# Altium integrated library Analog_Devices_Power_Management_Linear_Regulators.IntLib: 441 symbols (part 21 of 23)
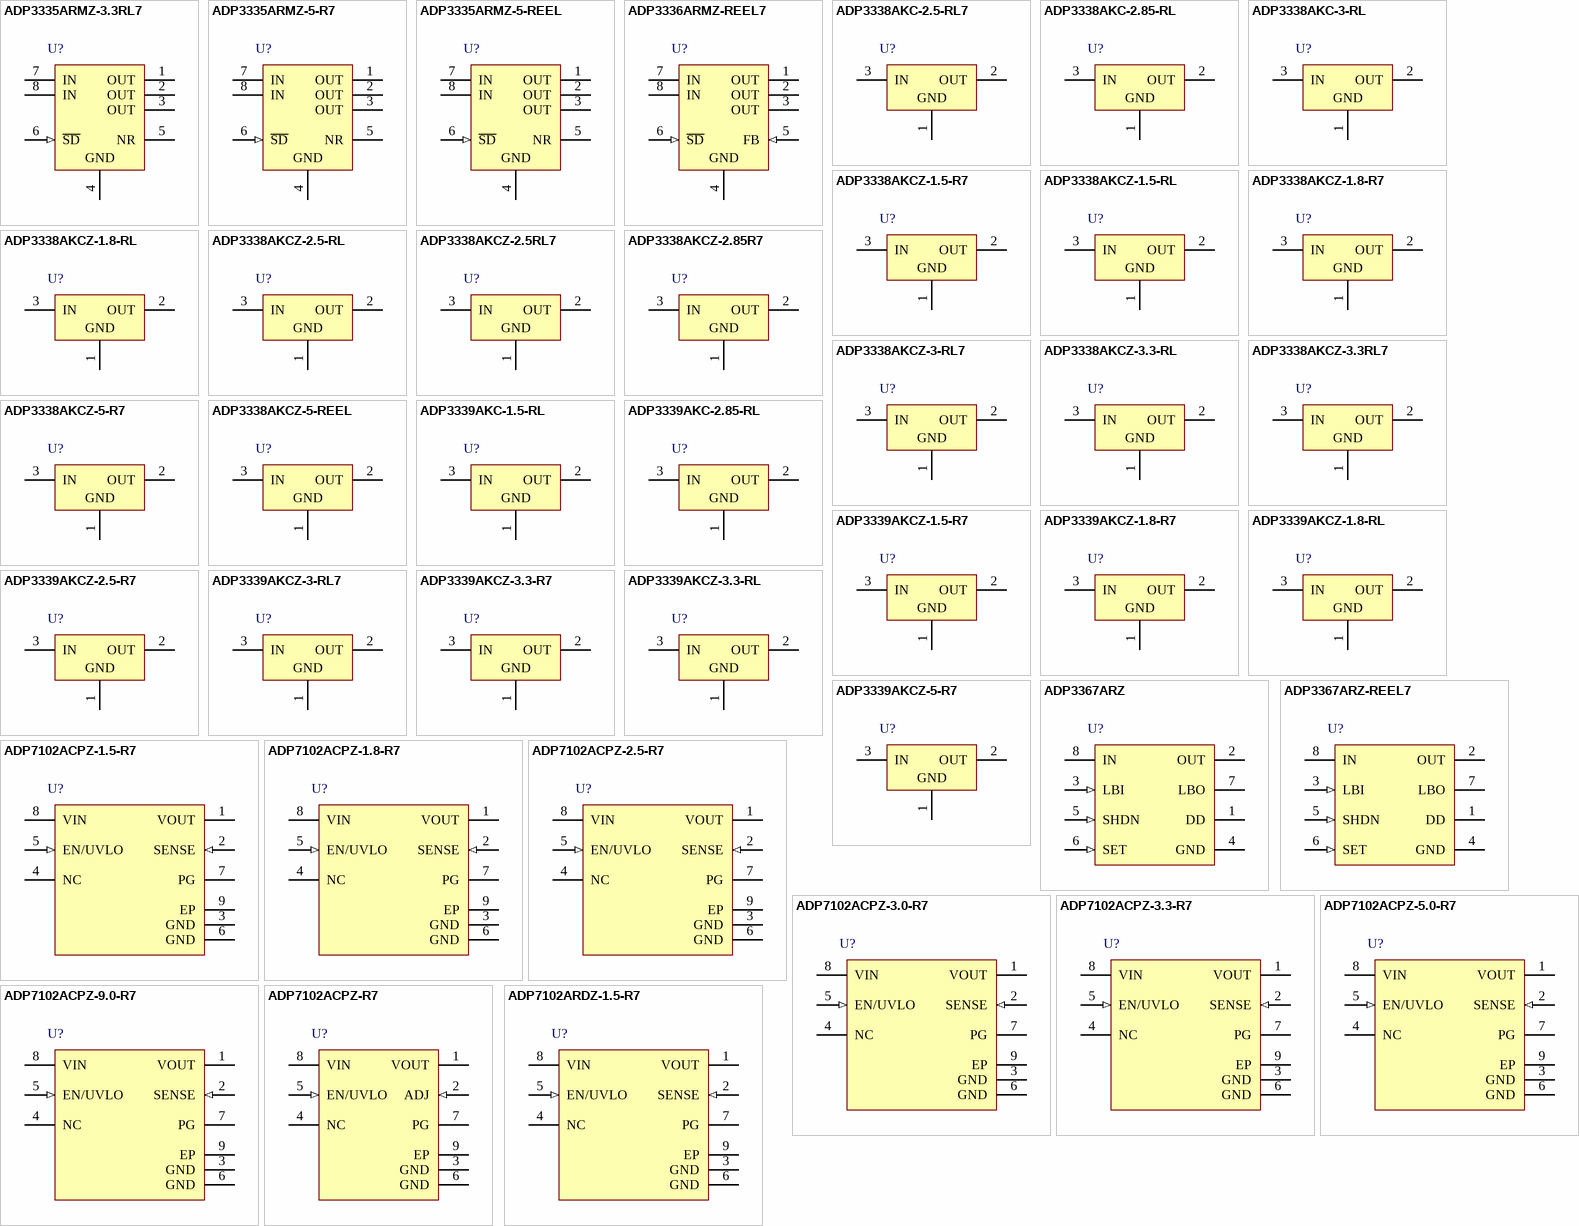
[diagram p31: symbols ADP3335ARMZ-3.3RL7 to ADP7102ARDZ-1.5-R7]

## ADP3339AKC-1.5-RL
designator U?
High Accuracy, Ultralow IQ, 1.5 A, anyCAP Low Dropout Regulator, 2.8 to 6 V Vin, 1.5 V Vout, Industrial, 3-pin SOT223 (KC-3), Reel; Manufacturer: Analog Devices; PartNumber: ADP3339AKC-1.5-RL; Iout max: 1.5A; Preset Vout Values (V): 1.5; Supply Current IGND @ Small Load: 130uA; Vin (max) (V): 6; Vin (min) (V): 2.8; DatasheetVersion: Rev. C; PackageVersion: 11-20-2012-B, 11/2012; PackageReference: KC-3; PackageDescription: 3-Pin Small Outline Transistor Package, Body 3.5 x 6.5 mm, Pitch 2.3 mm; Supplier 1: Mouser; Supplier Part Number 1: N/A; Packing: Reel; Mounting Technology: Surface Mount; Code_JEDEC: TO-261-AA; ComponentLink1Description: Manufacturer URL; ComponentLink1URL: http://www.analog.com/en/index.html; ComponentLink2Description: Datasheet; ComponentLink2URL: http://www.analog.com/static/imported-files/data_sheets/ADP3339.pdf; ComponentLink3Description: Package Specification; ComponentLink3URL: http:/www.analog.com/static/imported-files/packages/PKG_PDF/SOT_223(KC)/KC_3.pdf; ComponentLink4Description: URL Link1; ComponentLink4URL: Product URL:http://www.analog.com/en/ADP3339/productSearch.html
footprint ADI-KC-3_N (SOT223, 4-Leads, Body 6.5x3.5mm, Pitch 2.3mm, IPC Medium Density)
footprint ADI-KC-3_L (SOT223, 4-Leads, Body 6.5x3.5mm, Pitch 2.3mm, IPC High Density)
footprint ADI-KC-3_M (SOT223, 4-Leads, Body 6.5x3.5mm, Pitch 2.3mm, IPC Low Density)
pins: 1 GND (power) "Ground Pin.", 2 OUT (power) "Regulator Output. Bypass to ground with a 1 uF or larger capacitor.", 3 IN (power) "Regulator Input. Bypass to ground with a 1 uF or larger capacitor."

## ADP3339AKC-2.85-RL
designator U?
High Accuracy, Ultralow IQ, 1.5 A, anyCAP Low Dropout Regulator, 2.8 to 6 V Vin, 2.85 V Vout, Industrial, 3-pin SOT223 (KC-3), Reel; Manufacturer: Analog Devices; PartNumber: ADP3339AKC-2.85-RL; Iout max: 1.5A; Preset Vout Values (V): 2.85; Supply Current IGND @ Small Load: 130uA; Vin (max) (V): 6; Vin (min) (V): 2.8; DatasheetVersion: Rev. C; PackageVersion: 11-20-2012-B, 11/2012; PackageReference: KC-3; PackageDescription: 3-Pin Small Outline Transistor Package, Body 3.5 x 6.5 mm, Pitch 2.3 mm; Supplier 1: Mouser; Supplier Part Number 1: N/A; Packing: Reel; Mounting Technology: Surface Mount; Code_JEDEC: TO-261-AA; ComponentLink1Description: Manufacturer URL; ComponentLink1URL: http://www.analog.com/en/index.html; ComponentLink2Description: Datasheet; ComponentLink2URL: http://www.analog.com/static/imported-files/data_sheets/ADP3339.pdf; ComponentLink3Description: Package Specification; ComponentLink3URL: http:/www.analog.com/static/imported-files/packages/PKG_PDF/SOT_223(KC)/KC_3.pdf; ComponentLink4Description: URL Link1; ComponentLink4URL: Product URL:http://www.analog.com/en/ADP3339/productSearch.html
footprint ADI-KC-3_N (SOT223, 4-Leads, Body 6.5x3.5mm, Pitch 2.3mm, IPC Medium Density)
footprint ADI-KC-3_L (SOT223, 4-Leads, Body 6.5x3.5mm, Pitch 2.3mm, IPC High Density)
footprint ADI-KC-3_M (SOT223, 4-Leads, Body 6.5x3.5mm, Pitch 2.3mm, IPC Low Density)
pins: 1 GND (power) "Ground Pin.", 2 OUT (power) "Regulator Output. Bypass to ground with a 1 uF or larger capacitor.", 3 IN (power) "Regulator Input. Bypass to ground with a 1 uF or larger capacitor."

## ADP3339AKCZ-1.5-R7
designator U?
High Accuracy, Ultralow IQ, 1.5 A, anyCAP Low Dropout Regulator, 2.8 to 6 V Vin, 1.5 V Vout, Industrial, 3-pin SOT223 (KC-3), Reel; Manufacturer: Analog Devices; PartNumber: ADP3339AKCZ-1.5-R7; Iout max: 1.5A; Preset Vout Values (V): 1.5; Supply Current IGND @ Small Load: 130uA; Vin (max) (V): 6; Vin (min) (V): 2.8; DatasheetVersion: Rev. C; PackageVersion: 11-20-2012-B, 11/2012; PackageReference: KC-3; PackageDescription: 3-Pin Small Outline Transistor Package, Body 3.5 x 6.5 mm, Pitch 2.3 mm; Supplier 1: Digi-Key; Supplier Part Number 1: ADP3339AKCZ-1.5-R7TR-ND; Supplier 2: Digi-Key; Supplier Part Number 2: ADP3339AKCZ-1.5-R7CT-ND; Supplier 3: Digi-Key; Supplier Part Number 3: ADP3339AKCZ-1.5-R7DKR-ND; Supplier 4: Mouser; Supplier Part Number 4: 584-ADP3339AKCZ1.5R7; Packing: Reel; Mounting Technology: Surface Mount; Code_JEDEC: TO-261-AA; ComponentLink1Description: Manufacturer URL; ComponentLink1URL: http://www.analog.com/en/index.html; ComponentLink2Description: Datasheet; ComponentLink2URL: http://www.analog.com/static/imported-files/data_sheets/ADP3339.pdf; ComponentLink3Description: Package Specification; ComponentLink3URL: http:/www.analog.com/static/imported-files/packages/PKG_PDF/SOT_223(KC)/KC_3.pdf; ComponentLink4Description: URL Link1; ComponentLink4URL: Product URL:http://www.analog.com/en/ADP3339/productSearch.html
footprint ADI-KC-3_N (SOT223, 4-Leads, Body 6.5x3.5mm, Pitch 2.3mm, IPC Medium Density)
footprint ADI-KC-3_L (SOT223, 4-Leads, Body 6.5x3.5mm, Pitch 2.3mm, IPC High Density)
footprint ADI-KC-3_M (SOT223, 4-Leads, Body 6.5x3.5mm, Pitch 2.3mm, IPC Low Density)
pins: 1 GND (power) "Ground Pin.", 2 OUT (power) "Regulator Output. Bypass to ground with a 1 uF or larger capacitor.", 3 IN (power) "Regulator Input. Bypass to ground with a 1 uF or larger capacitor."

## ADP3339AKCZ-1.8-R7
designator U?
High Accuracy, Ultralow IQ, 1.5 A, anyCAP Low Dropout Regulator, 2.8 to 6 V Vin, 1.8 V Vout, Industrial, 3-pin SOT223 (KC-3), Reel; Manufacturer: Analog Devices; PartNumber: ADP3339AKCZ-1.8-R7; Iout max: 1.5A; Preset Vout Values (V): 1.8; Supply Current IGND @ Small Load: 130uA; Vin (max) (V): 6; Vin (min) (V): 2.8; DatasheetVersion: Rev. C; PackageVersion: 11-20-2012-B, 11/2012; PackageReference: KC-3; PackageDescription: 3-Pin Small Outline Transistor Package, Body 3.5 x 6.5 mm, Pitch 2.3 mm; Supplier 1: Digi-Key; Supplier Part Number 1: ADP3339AKCZ-1.8-R7TR-ND; Supplier 2: Digi-Key; Supplier Part Number 2: ADP3339AKCZ-1.8-R7CT-ND; Supplier 3: Digi-Key; Supplier Part Number 3: ADP3339AKCZ-1.8-R7DKR-ND; Supplier 4: Farnell; Supplier Part Number 4: 2376937; Supplier 5: Farnell; Supplier Part Number 5: 1699631; Supplier 6: Newark; Supplier Part Number 6: 61M4001; Supplier 7: Newark; Supplier Part Number 7: 23X6037; Supplier 8: Newark; Supplier Part Number 8: 28X3293; Supplier 9: Mouser; Supplier Part Number 9: 584-ADP3339AKCZ1.8R7; Packing: Reel; Mounting Technology: Surface Mount; Code_JEDEC: TO-261-AA; ComponentLink1Description: Manufacturer URL; ComponentLink1URL: http://www.analog.com/en/index.html; ComponentLink2Description: Datasheet; ComponentLink2URL: http://www.analog.com/static/imported-files/data_sheets/ADP3339.pdf; ComponentLink3Description: Package Specification; ComponentLink3URL: http:/www.analog.com/static/imported-files/packages/PKG_PDF/SOT_223(KC)/KC_3.pdf; ComponentLink4Description: URL Link1; ComponentLink4URL: Product URL:http://www.analog.com/en/ADP3339/productSearch.html
footprint ADI-KC-3_N (SOT223, 4-Leads, Body 6.5x3.5mm, Pitch 2.3mm, IPC Medium Density)
footprint ADI-KC-3_L (SOT223, 4-Leads, Body 6.5x3.5mm, Pitch 2.3mm, IPC High Density)
footprint ADI-KC-3_M (SOT223, 4-Leads, Body 6.5x3.5mm, Pitch 2.3mm, IPC Low Density)
pins: 1 GND (power) "Ground Pin.", 2 OUT (power) "Regulator Output. Bypass to ground with a 1 uF or larger capacitor.", 3 IN (power) "Regulator Input. Bypass to ground with a 1 uF or larger capacitor."

## ADP3339AKCZ-1.8-RL
designator U?
High Accuracy, Ultralow IQ, 1.5 A, anyCAP Low Dropout Regulator, 2.8 to 6 V Vin, 1.8 V Vout, Industrial, 3-pin SOT223 (KC-3), Reel; Manufacturer: Analog Devices; PartNumber: ADP3339AKCZ-1.8-RL; Iout max: 1.5A; Preset Vout Values (V): 1.8; Supply Current IGND @ Small Load: 130uA; Vin (max) (V): 6; Vin (min) (V): 2.8; DatasheetVersion: Rev. C; PackageVersion: 11-20-2012-B, 11/2012; PackageReference: KC-3; PackageDescription: 3-Pin Small Outline Transistor Package, Body 3.5 x 6.5 mm, Pitch 2.3 mm; Supplier 1: Digi-Key; Supplier Part Number 1: ADP3339AKCZ-1.8-RLTR-ND; Supplier 2: Digi-Key; Supplier Part Number 2: ADP3339AKCZ-1.8-RLCT-ND; Supplier 3: Digi-Key; Supplier Part Number 3: ADP3339AKCZ-1.8-RLDKR-ND; Supplier 4: Newark; Supplier Part Number 4: 12M8164; Supplier 5: Mouser; Supplier Part Number 5: 584-ADP3339AKCZ1.8R; Packing: Reel; Mounting Technology: Surface Mount; Code_JEDEC: TO-261-AA; ComponentLink1Description: Manufacturer URL; ComponentLink1URL: http://www.analog.com/en/index.html; ComponentLink2Description: Datasheet; ComponentLink2URL: http://www.analog.com/static/imported-files/data_sheets/ADP3339.pdf; ComponentLink3Description: Package Specification; ComponentLink3URL: http:/www.analog.com/static/imported-files/packages/PKG_PDF/SOT_223(KC)/KC_3.pdf; ComponentLink4Description: URL Link1; ComponentLink4URL: Product URL:http://www.analog.com/en/ADP3339/productSearch.html
footprint ADI-KC-3_N (SOT223, 4-Leads, Body 6.5x3.5mm, Pitch 2.3mm, IPC Medium Density)
footprint ADI-KC-3_L (SOT223, 4-Leads, Body 6.5x3.5mm, Pitch 2.3mm, IPC High Density)
footprint ADI-KC-3_M (SOT223, 4-Leads, Body 6.5x3.5mm, Pitch 2.3mm, IPC Low Density)
pins: 1 GND (power) "Ground Pin.", 2 OUT (power) "Regulator Output. Bypass to ground with a 1 uF or larger capacitor.", 3 IN (power) "Regulator Input. Bypass to ground with a 1 uF or larger capacitor."

## ADP3339AKCZ-2.5-R7
designator U?
High Accuracy, Ultralow IQ, 1.5 A, anyCAP Low Dropout Regulator, 2.8 to 6 V Vin, 2.5 V Vout, Industrial, 3-pin SOT223 (KC-3), Reel; Manufacturer: Analog Devices; PartNumber: ADP3339AKCZ-2.5-R7; Iout max: 1.5A; Preset Vout Values (V): 2.5; Supply Current IGND @ Small Load: 130uA; Vin (max) (V): 6; Vin (min) (V): 2.8; DatasheetVersion: Rev. C; PackageVersion: 11-20-2012-B, 11/2012; PackageReference: KC-3; PackageDescription: 3-Pin Small Outline Transistor Package, Body 3.5 x 6.5 mm, Pitch 2.3 mm; Supplier 1: Digi-Key; Supplier Part Number 1: ADP3339AKCZ-2.5-R7TR-ND; Supplier 2: Digi-Key; Supplier Part Number 2: ADP3339AKCZ-2.5-R7CT-ND; Supplier 3: Digi-Key; Supplier Part Number 3: ADP3339AKCZ-2.5-R7DKR-ND; Supplier 4: Farnell; Supplier Part Number 4: 2376938; Supplier 5: Farnell; Supplier Part Number 5: 1699524; Supplier 6: Newark; Supplier Part Number 6: 12M8166; Supplier 7: Newark; Supplier Part Number 7: 28X3294; Supplier 8: Mouser; Supplier Part Number 8: 584-ADP3339AKCZ2.5R7; Packing: Reel; Mounting Technology: Surface Mount; Code_JEDEC: TO-261-AA; ComponentLink1Description: Manufacturer URL; ComponentLink1URL: http://www.analog.com/en/index.html; ComponentLink2Description: Datasheet; ComponentLink2URL: http://www.analog.com/static/imported-files/data_sheets/ADP3339.pdf; ComponentLink3Description: Package Specification; ComponentLink3URL: http:/www.analog.com/static/imported-files/packages/PKG_PDF/SOT_223(KC)/KC_3.pdf; ComponentLink4Description: URL Link1; ComponentLink4URL: Product URL:http://www.analog.com/en/ADP3339/productSearch.html
footprint ADI-KC-3_N (SOT223, 4-Leads, Body 6.5x3.5mm, Pitch 2.3mm, IPC Medium Density)
footprint ADI-KC-3_L (SOT223, 4-Leads, Body 6.5x3.5mm, Pitch 2.3mm, IPC High Density)
footprint ADI-KC-3_M (SOT223, 4-Leads, Body 6.5x3.5mm, Pitch 2.3mm, IPC Low Density)
pins: 1 GND (power) "Ground Pin.", 2 OUT (power) "Regulator Output. Bypass to ground with a 1 uF or larger capacitor.", 3 IN (power) "Regulator Input. Bypass to ground with a 1 uF or larger capacitor."

## ADP3339AKCZ-3-RL7
designator U?
High Accuracy, Ultralow IQ, 1.5 A, anyCAP Low Dropout Regulator, 2.8 to 6 V Vin, 3 V Vout, Industrial, 3-pin SOT223 (KC-3), Reel; Manufacturer: Analog Devices; PartNumber: ADP3339AKCZ-3-RL7; Iout max: 1.5A; Preset Vout Values (V): 3.0; Supply Current IGND @ Small Load: 130uA; Vin (max) (V): 6; Vin (min) (V): 2.8; DatasheetVersion: Rev. C; PackageVersion: 11-20-2012-B, 11/2012; PackageReference: KC-3; PackageDescription: 3-Pin Small Outline Transistor Package, Body 3.5 x 6.5 mm, Pitch 2.3 mm; Supplier 1: Digi-Key; Supplier Part Number 1: ADP3339AKCZ-3-RL7TR-ND; Supplier 2: Digi-Key; Supplier Part Number 2: ADP3339AKCZ-3-RL7CT-ND; Supplier 3: Digi-Key; Supplier Part Number 3: ADP3339AKCZ-3-RL7DKR-ND; Supplier 4: Newark; Supplier Part Number 4: 12M8169; Supplier 5: Mouser; Supplier Part Number 5: 584-ADP3339AKCZ-3-R7; Packing: Reel; Mounting Technology: Surface Mount; Code_JEDEC: TO-261-AA; ComponentLink1Description: Manufacturer URL; ComponentLink1URL: http://www.analog.com/en/index.html; ComponentLink2Description: Datasheet; ComponentLink2URL: http://www.analog.com/static/imported-files/data_sheets/ADP3339.pdf; ComponentLink3Description: Package Specification; ComponentLink3URL: http:/www.analog.com/static/imported-files/packages/PKG_PDF/SOT_223(KC)/KC_3.pdf; ComponentLink4Description: URL Link1; ComponentLink4URL: Product URL:http://www.analog.com/en/ADP3339/productSearch.html
footprint ADI-KC-3_N (SOT223, 4-Leads, Body 6.5x3.5mm, Pitch 2.3mm, IPC Medium Density)
footprint ADI-KC-3_L (SOT223, 4-Leads, Body 6.5x3.5mm, Pitch 2.3mm, IPC High Density)
footprint ADI-KC-3_M (SOT223, 4-Leads, Body 6.5x3.5mm, Pitch 2.3mm, IPC Low Density)
pins: 1 GND (power) "Ground Pin.", 2 OUT (power) "Regulator Output. Bypass to ground with a 1 uF or larger capacitor.", 3 IN (power) "Regulator Input. Bypass to ground with a 1 uF or larger capacitor."

## ADP3339AKCZ-3.3-R7
designator U?
High Accuracy, Ultralow IQ, 1.5 A, anyCAP Low Dropout Regulator, 2.8 to 6 V Vin, 3.3 V Vout, Industrial, 3-pin SOT223 (KC-3), Reel; Manufacturer: Analog Devices; PartNumber: ADP3339AKCZ-3.3-R7; Iout max: 1.5A; Preset Vout Values (V): 3.3; Supply Current IGND @ Small Load: 130uA; Vin (max) (V): 6; Vin (min) (V): 2.8; DatasheetVersion: Rev. C; PackageVersion: 11-20-2012-B, 11/2012; PackageReference: KC-3; PackageDescription: 3-Pin Small Outline Transistor Package, Body 3.5 x 6.5 mm, Pitch 2.3 mm; Supplier 1: Digi-Key; Supplier Part Number 1: ADP3339AKCZ-3.3-R7TR-ND; Supplier 2: Digi-Key; Supplier Part Number 2: ADP3339AKCZ-3.3-R7CT-ND; Supplier 3: Digi-Key; Supplier Part Number 3: ADP3339AKCZ-3.3-R7DKR-ND; Supplier 4: Farnell; Supplier Part Number 4: 2112615; Supplier 5: Newark; Supplier Part Number 5: 12M8168; Supplier 6: Newark; Supplier Part Number 6: 28X3295; Supplier 7: Mouser; Supplier Part Number 7: 584-ADP3339AKCZ3.3R7; Packing: Reel; Mounting Technology: Surface Mount; Code_JEDEC: TO-261-AA; ComponentLink1Description: Manufacturer URL; ComponentLink1URL: http://www.analog.com/en/index.html; ComponentLink2Description: Datasheet; ComponentLink2URL: http://www.analog.com/static/imported-files/data_sheets/ADP3339.pdf; ComponentLink3Description: Package Specification; ComponentLink3URL: http:/www.analog.com/static/imported-files/packages/PKG_PDF/SOT_223(KC)/KC_3.pdf; ComponentLink4Description: URL Link1; ComponentLink4URL: Product URL:http://www.analog.com/en/ADP3339/productSearch.html
footprint ADI-KC-3_N (SOT223, 4-Leads, Body 6.5x3.5mm, Pitch 2.3mm, IPC Medium Density)
footprint ADI-KC-3_L (SOT223, 4-Leads, Body 6.5x3.5mm, Pitch 2.3mm, IPC High Density)
footprint ADI-KC-3_M (SOT223, 4-Leads, Body 6.5x3.5mm, Pitch 2.3mm, IPC Low Density)
pins: 1 GND (power) "Ground Pin.", 2 OUT (power) "Regulator Output. Bypass to ground with a 1 uF or larger capacitor.", 3 IN (power) "Regulator Input. Bypass to ground with a 1 uF or larger capacitor."

## ADP3339AKCZ-3.3-RL
designator U?
High Accuracy, Ultralow IQ, 1.5 A, anyCAP Low Dropout Regulator, 2.8 to 6 V Vin, 3.3 V Vout, Industrial, 3-pin SOT223 (KC-3), Reel; Manufacturer: Analog Devices; PartNumber: ADP3339AKCZ-3.3-RL; Iout max: 1.5A; Preset Vout Values (V): 3.3; Supply Current IGND @ Small Load: 130uA; Vin (max) (V): 6; Vin (min) (V): 2.8; DatasheetVersion: Rev. C; PackageVersion: 11-20-2012-B, 11/2012; PackageReference: KC-3; PackageDescription: 3-Pin Small Outline Transistor Package, Body 3.5 x 6.5 mm, Pitch 2.3 mm; Supplier 1: Digi-Key; Supplier Part Number 1: ADP3339AKCZ-3.3-RLTR-ND; Supplier 2: Digi-Key; Supplier Part Number 2: ADP3339AKCZ-3.3-RLCT-ND; Supplier 3: Digi-Key; Supplier Part Number 3: ADP3339AKCZ-3.3-RLDKR-ND; Supplier 4: Newark; Supplier Part Number 4: 12M8167; Supplier 5: Mouser; Supplier Part Number 5: 584-ADP3339AKCZ3.3R; Packing: Reel; Mounting Technology: Surface Mount; Code_JEDEC: TO-261-AA; ComponentLink1Description: Manufacturer URL; ComponentLink1URL: http://www.analog.com/en/index.html; ComponentLink2Description: Datasheet; ComponentLink2URL: http://www.analog.com/static/imported-files/data_sheets/ADP3339.pdf; ComponentLink3Description: Package Specification; ComponentLink3URL: http:/www.analog.com/static/imported-files/packages/PKG_PDF/SOT_223(KC)/KC_3.pdf; ComponentLink4Description: URL Link1; ComponentLink4URL: Product URL:http://www.analog.com/en/ADP3339/productSearch.html
footprint ADI-KC-3_N (SOT223, 4-Leads, Body 6.5x3.5mm, Pitch 2.3mm, IPC Medium Density)
footprint ADI-KC-3_L (SOT223, 4-Leads, Body 6.5x3.5mm, Pitch 2.3mm, IPC High Density)
footprint ADI-KC-3_M (SOT223, 4-Leads, Body 6.5x3.5mm, Pitch 2.3mm, IPC Low Density)
pins: 1 GND (power) "Ground Pin.", 2 OUT (power) "Regulator Output. Bypass to ground with a 1 uF or larger capacitor.", 3 IN (power) "Regulator Input. Bypass to ground with a 1 uF or larger capacitor."

## ADP3339AKCZ-5-R7
designator U?
High Accuracy, Ultralow IQ, 1.5 A, anyCAP Low Dropout Regulator, 2.8 to 6 V Vin, 5 V Vout, Industrial, 3-pin SOT223 (KC-3), Reel; Manufacturer: Analog Devices; PartNumber: ADP3339AKCZ-5-R7; Iout max: 1.5A; Preset Vout Values (V): 5.0; Supply Current IGND @ Small Load: 130uA; Vin (max) (V): 6; Vin (min) (V): 2.8; DatasheetVersion: Rev. C; PackageVersion: 11-20-2012-B, 11/2012; PackageReference: KC-3; PackageDescription: 3-Pin Small Outline Transistor Package, Body 3.5 x 6.5 mm, Pitch 2.3 mm; Supplier 1: Digi-Key; Supplier Part Number 1: ADP3339AKCZ-5-R7TR-ND; Supplier 2: Digi-Key; Supplier Part Number 2: ADP3339AKCZ-5-R7CT-ND; Supplier 3: Digi-Key; Supplier Part Number 3: ADP3339AKCZ-5-R7DKR-ND; Supplier 4: Farnell; Supplier Part Number 4: 2376939; Supplier 5: Farnell; Supplier Part Number 5: 1699526; Supplier 6: Newark; Supplier Part Number 6: 12M8170; Supplier 7: Newark; Supplier Part Number 7: 28X3296; Supplier 8: Mouser; Supplier Part Number 8: 584-ADP3339AKCZ-5-R7; Packing: Reel; Mounting Technology: Surface Mount; Code_JEDEC: TO-261-AA; ComponentLink1Description: Manufacturer URL; ComponentLink1URL: http://www.analog.com/en/index.html; ComponentLink2Description: Datasheet; ComponentLink2URL: http://www.analog.com/static/imported-files/data_sheets/ADP3339.pdf; ComponentLink3Description: Package Specification; ComponentLink3URL: http:/www.analog.com/static/imported-files/packages/PKG_PDF/SOT_223(KC)/KC_3.pdf; ComponentLink4Description: URL Link1; ComponentLink4URL: Product URL:http://www.analog.com/en/ADP3339/productSearch.html
footprint ADI-KC-3_N (SOT223, 4-Leads, Body 6.5x3.5mm, Pitch 2.3mm, IPC Medium Density)
footprint ADI-KC-3_L (SOT223, 4-Leads, Body 6.5x3.5mm, Pitch 2.3mm, IPC High Density)
footprint ADI-KC-3_M (SOT223, 4-Leads, Body 6.5x3.5mm, Pitch 2.3mm, IPC Low Density)
pins: 1 GND (power) "Ground Pin.", 2 OUT (power) "Regulator Output. Bypass to ground with a 1 uF or larger capacitor.", 3 IN (power) "Regulator Input. Bypass to ground with a 1 uF or larger capacitor."

## ADP3367ARZ
designator U?
Low-Dropout Linear Voltage Regulator, 2.5 to 16.5 V Vin, 5 V Vout, Industrial, 8-pin SOIC (R-8), Tube; Manufacturer: Analog Devices; PartNumber: ADP3367ARZ; Iout max: 300mA; Preset Vout Values (V): 5; Supply Current IGND @ Small Load: 17uA; Vin (max) (V): 16.5; Vin (min) (V): 2.5; Vout Adjustable Range: 1.3V to 16V; DatasheetVersion: Rev. 0; PackageVersion: 060506-A, 06/2006; PackageReference: R-8; PackageDescription: 8-Pin Standard Small Outline Package, Body 4.9 x 3.9 mm, Pitch 1.27 mm; Supplier 1: Digi-Key; Supplier Part Number 1: ADP3367ARZ-ND; Supplier 2: Farnell; Supplier Part Number 2: 2305725; Supplier 3: Newark; Supplier Part Number 3: 84W7358; Supplier 4: Newark; Supplier Part Number 4: 59K2629; Supplier 5: Mouser; Supplier Part Number 5: 584-ADP3367ARZ; Packing: Tube; Mounting Technology: Surface Mount; Code_JEDEC: MS-012-AA; ComponentLink1Description: Manufacturer URL; ComponentLink1URL: http://www.analog.com/en/index.html; ComponentLink2Description: Datasheet; ComponentLink2URL: http://www.analog.com/static/imported-files/data_sheets/ADP3367.pdf; ComponentLink3Description: Package Specification; ComponentLink3URL: http://www.analog.com/static/imported-files/packages/PKG_PDF/SOIC_Narrow%20(R)/R_8.pdf; ComponentLink4Description: URL Link1; ComponentLink4URL: Product URL:http://www.analog.com/en/ADP3367/productSearch.html
footprint ADI-R-8_N (SOIC, 8-Leads, Body 4.9x3.9mm, Pitch 1.27mm, IPC Medium Density)
footprint ADI-R-8_L (SOIC, 8-Leads, Body 4.9x3.9mm, Pitch 1.27mm, IPC High Density)
footprint ADI-R-8_M (SOIC, 8-Leads, Body 4.9x3.9mm, Pitch 1.27mm, IPC Low Density)
pins: 1 DD (oe) "Dropout Detector Output. PNP collector output which sources current as dropout is reached.", 2 OUT (power) "Regulated Output Voltage. Connect to filter capacitor.", 3 LBI (in) "Low Battery Detect Input. Compared with 1.255 V.", 4 GND (power) "Ground Pin. Must be connected to 0 V.", 5 SHDN (in) "Digital Input. May be used to disable the device so that the power consumption is minimized.", 6 SET (in) "Voltage Setting Input. Connect to GND for +5 V output or connect to resistive divider for adjustable output.", 7 LBO (oc) "Low Battery Detect Output. Open Drain Output that goes low when LBI is below the threshold.", 8 IN (power) "Voltage Regulator Input."

## ADP3367ARZ-REEL7
designator U?
Low-Dropout Linear Voltage Regulator, 2.5 to 16.5 V Vin, 5 V Vout, Industrial, 8-pin SOIC (R-8), Reel; Manufacturer: Analog Devices; PartNumber: ADP3367ARZ-REEL7; Iout max: 300mA; Preset Vout Values (V): 5; Supply Current IGND @ Small Load: 17uA; Vin (max) (V): 16.5; Vin (min) (V): 2.5; Vout Adjustable Range: 1.3V to 16V; DatasheetVersion: Rev. 0; PackageVersion: 060506-A, 06/2006; PackageReference: R-8; PackageDescription: 8-Pin Standard Small Outline Package, Body 4.9 x 3.9 mm, Pitch 1.27 mm; Supplier 1: Digi-Key; Supplier Part Number 1: ADP3367ARZ-REEL7TR-ND; Supplier 2: Digi-Key; Supplier Part Number 2: ADP3367ARZ-REEL7CT-ND; Supplier 3: Digi-Key; Supplier Part Number 3: ADP3367ARZ-REEL7DKR-ND; Supplier 4: Newark; Supplier Part Number 4: 59K2631; Supplier 5: Mouser; Supplier Part Number 5: 584-ADP3367ARZ-R7; Packing: Reel; Mounting Technology: Surface Mount; Code_JEDEC: MS-012-AA; ComponentLink1Description: Manufacturer URL; ComponentLink1URL: http://www.analog.com/en/index.html; ComponentLink2Description: Datasheet; ComponentLink2URL: http://www.analog.com/static/imported-files/data_sheets/ADP3367.pdf; ComponentLink3Description: Package Specification; ComponentLink3URL: http://www.analog.com/static/imported-files/packages/PKG_PDF/SOIC_Narrow%20(R)/R_8.pdf; ComponentLink4Description: URL Link1; ComponentLink4URL: Product URL:http://www.analog.com/en/ADP3367/productSearch.html
footprint ADI-R-8_N (SOIC, 8-Leads, Body 4.9x3.9mm, Pitch 1.27mm, IPC Medium Density)
footprint ADI-R-8_L (SOIC, 8-Leads, Body 4.9x3.9mm, Pitch 1.27mm, IPC High Density)
footprint ADI-R-8_M (SOIC, 8-Leads, Body 4.9x3.9mm, Pitch 1.27mm, IPC Low Density)
pins: 1 DD (oe) "Dropout Detector Output. PNP collector output which sources current as dropout is reached.", 2 OUT (power) "Regulated Output Voltage. Connect to filter capacitor.", 3 LBI (in) "Low Battery Detect Input. Compared with 1.255 V.", 4 GND (power) "Ground Pin. Must be connected to 0 V.", 5 SHDN (in) "Digital Input. May be used to disable the device so that the power consumption is minimized.", 6 SET (in) "Voltage Setting Input. Connect to GND for +5 V output or connect to resistive divider for adjustable output.", 7 LBO (oc) "Low Battery Detect Output. Open Drain Output that goes low when LBI is below the threshold.", 8 IN (power) "Voltage Regulator Input."

## ADP7102ACPZ-1.5-R7
designator U?
300 mA, Low Noise, CMOS LDO, 3.3 to 20 V Vin, 1.5 V Vout, Industrial, 8-pin SON (CP-8-5), Reel; Manufacturer: Analog Devices; PartNumber: ADP7102ACPZ-1.5-R7; Iout max: 300mA; Preset Vout Values (V): 1.5; Supply Current IGND @ Small Load: 400uA; Vin (max) (V): 20; Vin (min) (V): 3.3; DatasheetVersion: Rev. A; PackageVersion: 031208-A, 03/2008; PackageReference: CP-8-5; PackageDescription: 8-Pin Lead Frame Chip Scale Package, Body 3 x 3 mm, Pitch 0.5 mm; Supplier 1: Digi-Key; Supplier Part Number 1: ADP7102ACPZ-1.5-R7TR-ND; Supplier 2: Digi-Key; Supplier Part Number 2: ADP7102ACPZ-1.5-R7CT-ND; Supplier 3: Digi-Key; Supplier Part Number 3: ADP7102ACPZ-1.5-R7DKR-ND; Supplier 4: Mouser; Supplier Part Number 4: 584-ADP7102ACPZ1.5R7; Packing: Reel; Mounting Technology: Surface Mount; ComponentLink1Description: Manufacturer URL; ComponentLink1URL: http://www.analog.com/en/index.html; ComponentLink2Description: Datasheet; ComponentLink2URL: http://www.analog.com/static/imported-files/data_sheets/ADP7102.pdf; ComponentLink3Description: Package Specification; ComponentLink3URL: http://www.analog.com/static/imported-files/packages/PKG_PDF/LFCSP(CP)/CP_8_5.pdf; ComponentLink4Description: URL Link1; ComponentLink4URL: Product URL:http://www.analog.com/en/ADP7102/productSearch.html
footprint ADI-CP-8-5_V (SON, 8-Leads, Body 3x3mm, Pitch 0.5mm, Thermal Pad 1.74x2.38mm)
pins: 1 VOUT (power) "Regulated Output Voltage. Bypass VOUT to GND with a 1 uF or greater capacitor.", 2 SENSE (in) "Sense (SENSE). Measures the actual output voltage at the load and feeds it to the error amplifier. Connect SENSE as close as possible to the load to minimize the effect of IR drop between the regulator output and the load. (See Datasheet)", 3 GND (power) "Ground.", 4 NC "Do Not Connect to this Pin.", 5 EN/UVLO (in), 6 GND (power) "Ground.", 7 PG (oc) "Power Good. This open-drain output requires an external pull-up resistor to VIN or VOUT. If the part is in shutdown, current limit, thermal shutdown, or falls below 90% of the nominal output voltage, PG immediately (See Datasheet)", 8 VIN (power) "Regulator Input Supply. Bypass VIN to GND with a 1 uF or greater capacitor.", 9 EP (power) "Exposed Pad. Exposed paddle on the bottom of the package. The EPAD enhances thermal performance and is electrically connected to GND inside the package. It is highly recommended that the EPAD be connected to the ground plane (See Datasheet)"

## ADP7102ACPZ-1.8-R7
designator U?
300 mA, Low Noise, CMOS LDO, 3.3 to 20 V Vin, 1.8 V Vout, Industrial, 8-pin SON (CP-8-5), Reel; Manufacturer: Analog Devices; PartNumber: ADP7102ACPZ-1.8-R7; Iout max: 300mA; Preset Vout Values (V): 1.8; Supply Current IGND @ Small Load: 400uA; Vin (max) (V): 20; Vin (min) (V): 3.3; DatasheetVersion: Rev. A; PackageVersion: 031208-A, 03/2008; PackageReference: CP-8-5; PackageDescription: 8-Pin Lead Frame Chip Scale Package, Body 3 x 3 mm, Pitch 0.5 mm; Supplier 1: Digi-Key; Supplier Part Number 1: ADP7102ACPZ-1.8-R7TR-ND; Supplier 2: Digi-Key; Supplier Part Number 2: ADP7102ACPZ-1.8-R7CT-ND; Supplier 3: Digi-Key; Supplier Part Number 3: ADP7102ACPZ-1.8-R7DKR-ND; Supplier 4: Newark; Supplier Part Number 4: 43W5493; Supplier 5: Mouser; Supplier Part Number 5: 584-ADP7102ACPZ1.8R7; Packing: Reel; Mounting Technology: Surface Mount; ComponentLink1Description: Manufacturer URL; ComponentLink1URL: http://www.analog.com/en/index.html; ComponentLink2Description: Datasheet; ComponentLink2URL: http://www.analog.com/static/imported-files/data_sheets/ADP7102.pdf; ComponentLink3Description: Package Specification; ComponentLink3URL: http://www.analog.com/static/imported-files/packages/PKG_PDF/LFCSP(CP)/CP_8_5.pdf; ComponentLink4Description: URL Link1; ComponentLink4URL: Product URL:http://www.analog.com/en/ADP7102/productSearch.html
footprint ADI-CP-8-5_V (SON, 8-Leads, Body 3x3mm, Pitch 0.5mm, Thermal Pad 1.74x2.38mm)
pins: 1 VOUT (power) "Regulated Output Voltage. Bypass VOUT to GND with a 1 uF or greater capacitor.", 2 SENSE (in) "Sense (SENSE). Measures the actual output voltage at the load and feeds it to the error amplifier. Connect SENSE as close as possible to the load to minimize the effect of IR drop between the regulator output and the load. (See Datasheet)", 3 GND (power) "Ground.", 4 NC "Do Not Connect to this Pin.", 5 EN/UVLO (in), 6 GND (power) "Ground.", 7 PG (oc) "Power Good. This open-drain output requires an external pull-up resistor to VIN or VOUT. If the part is in shutdown, current limit, thermal shutdown, or falls below 90% of the nominal output voltage, PG immediately (See Datasheet)", 8 VIN (power) "Regulator Input Supply. Bypass VIN to GND with a 1 uF or greater capacitor.", 9 EP (power) "Exposed Pad. Exposed paddle on the bottom of the package. The EPAD enhances thermal performance and is electrically connected to GND inside the package. It is highly recommended that the EPAD be connected to the ground plane (See Datasheet)"

## ADP7102ACPZ-2.5-R7
designator U?
300 mA, Low Noise, CMOS LDO, 3.3 to 20 V Vin, 2.5 V Vout, Industrial, 8-pin SON (CP-8-5), Reel; Manufacturer: Analog Devices; PartNumber: ADP7102ACPZ-2.5-R7; Iout max: 300mA; Preset Vout Values (V): 2.5; Supply Current IGND @ Small Load: 400uA; Vin (max) (V): 20; Vin (min) (V): 3.3; DatasheetVersion: Rev. A; PackageVersion: 031208-A, 03/2008; PackageReference: CP-8-5; PackageDescription: 8-Pin Lead Frame Chip Scale Package, Body 3 x 3 mm, Pitch 0.5 mm; Supplier 1: Digi-Key; Supplier Part Number 1: ADP7102ACPZ-2.5-R7TR-ND; Supplier 2: Digi-Key; Supplier Part Number 2: ADP7102ACPZ-2.5-R7CT-ND; Supplier 3: Digi-Key; Supplier Part Number 3: ADP7102ACPZ-2.5-R7DKR-ND; Supplier 4: Newark; Supplier Part Number 4: 43W5494; Supplier 5: Mouser; Supplier Part Number 5: 584-ADP7102ACPZ2.5R7; Packing: Reel; Mounting Technology: Surface Mount; ComponentLink1Description: Manufacturer URL; ComponentLink1URL: http://www.analog.com/en/index.html; ComponentLink2Description: Datasheet; ComponentLink2URL: http://www.analog.com/static/imported-files/data_sheets/ADP7102.pdf; ComponentLink3Description: Package Specification; ComponentLink3URL: http://www.analog.com/static/imported-files/packages/PKG_PDF/LFCSP(CP)/CP_8_5.pdf; ComponentLink4Description: URL Link1; ComponentLink4URL: Product URL:http://www.analog.com/en/ADP7102/productSearch.html
footprint ADI-CP-8-5_V (SON, 8-Leads, Body 3x3mm, Pitch 0.5mm, Thermal Pad 1.74x2.38mm)
pins: 1 VOUT (power) "Regulated Output Voltage. Bypass VOUT to GND with a 1 uF or greater capacitor.", 2 SENSE (in) "Sense (SENSE). Measures the actual output voltage at the load and feeds it to the error amplifier. Connect SENSE as close as possible to the load to minimize the effect of IR drop between the regulator output and the load. (See Datasheet)", 3 GND (power) "Ground.", 4 NC "Do Not Connect to this Pin.", 5 EN/UVLO (in), 6 GND (power) "Ground.", 7 PG (oc) "Power Good. This open-drain output requires an external pull-up resistor to VIN or VOUT. If the part is in shutdown, current limit, thermal shutdown, or falls below 90% of the nominal output voltage, PG immediately (See Datasheet)", 8 VIN (power) "Regulator Input Supply. Bypass VIN to GND with a 1 uF or greater capacitor.", 9 EP (power) "Exposed Pad. Exposed paddle on the bottom of the package. The EPAD enhances thermal performance and is electrically connected to GND inside the package. It is highly recommended that the EPAD be connected to the ground plane (See Datasheet)"

## ADP7102ACPZ-3.0-R7
designator U?
300 mA, Low Noise, CMOS LDO, 3.3 to 20 V Vin, 3 V Vout, Industrial, 8-pin SON (CP-8-5), Reel; Manufacturer: Analog Devices; PartNumber: ADP7102ACPZ-3.0-R7; Iout max: 300mA; Preset Vout Values (V): 3.0; Supply Current IGND @ Small Load: 400uA; Vin (max) (V): 20; Vin (min) (V): 3.3; DatasheetVersion: Rev. A; PackageVersion: 031208-A, 03/2008; PackageReference: CP-8-5; PackageDescription: 8-Pin Lead Frame Chip Scale Package, Body 3 x 3 mm, Pitch 0.5 mm; Supplier 1: Digi-Key; Supplier Part Number 1: ADP7102ACPZ-3.0-R7TR-ND; Supplier 2: Digi-Key; Supplier Part Number 2: ADP7102ACPZ-3.0-R7CT-ND; Supplier 3: Digi-Key; Supplier Part Number 3: ADP7102ACPZ-3.0-R7DKR-ND; Supplier 4: Mouser; Supplier Part Number 4: 584-ADP7102ACPZ3.0R7; Packing: Reel; Mounting Technology: Surface Mount; ComponentLink1Description: Manufacturer URL; ComponentLink1URL: http://www.analog.com/en/index.html; ComponentLink2Description: Datasheet; ComponentLink2URL: http://www.analog.com/static/imported-files/data_sheets/ADP7102.pdf; ComponentLink3Description: Package Specification; ComponentLink3URL: http://www.analog.com/static/imported-files/packages/PKG_PDF/LFCSP(CP)/CP_8_5.pdf; ComponentLink4Description: URL Link1; ComponentLink4URL: Product URL:http://www.analog.com/en/ADP7102/productSearch.html
footprint ADI-CP-8-5_V (SON, 8-Leads, Body 3x3mm, Pitch 0.5mm, Thermal Pad 1.74x2.38mm)
pins: 1 VOUT (power) "Regulated Output Voltage. Bypass VOUT to GND with a 1 uF or greater capacitor.", 2 SENSE (in) "Sense (SENSE). Measures the actual output voltage at the load and feeds it to the error amplifier. Connect SENSE as close as possible to the load to minimize the effect of IR drop between the regulator output and the load. (See Datasheet)", 3 GND (power) "Ground.", 4 NC "Do Not Connect to this Pin.", 5 EN/UVLO (in), 6 GND (power) "Ground.", 7 PG (oc) "Power Good. This open-drain output requires an external pull-up resistor to VIN or VOUT. If the part is in shutdown, current limit, thermal shutdown, or falls below 90% of the nominal output voltage, PG immediately (See Datasheet)", 8 VIN (power) "Regulator Input Supply. Bypass VIN to GND with a 1 uF or greater capacitor.", 9 EP (power) "Exposed Pad. Exposed paddle on the bottom of the package. The EPAD enhances thermal performance and is electrically connected to GND inside the package. It is highly recommended that the EPAD be connected to the ground plane (See Datasheet)"

## ADP7102ACPZ-3.3-R7
designator U?
300 mA, Low Noise, CMOS LDO, 3.3 to 20 V Vin, 3.3 V Vout, Industrial, 8-pin SON (CP-8-5), Reel; Manufacturer: Analog Devices; PartNumber: ADP7102ACPZ-3.3-R7; Iout max: 300mA; Preset Vout Values (V): 3.3; Supply Current IGND @ Small Load: 400uA; Vin (max) (V): 20; DatasheetVersion: Rev. A; PackageVersion: 031208-A, 03/2008; PackageReference: CP-8-5; PackageDescription: 8-Pin Lead Frame Chip Scale Package, Body 3 x 3 mm, Pitch 0.5 mm; Supplier 1: Digi-Key; Supplier Part Number 1: ADP7102ACPZ-3.3-R7TR-ND; Supplier 2: Digi-Key; Supplier Part Number 2: ADP7102ACPZ-3.3-R7CT-ND; Supplier 3: Digi-Key; Supplier Part Number 3: ADP7102ACPZ-3.3-R7DKR-ND; Supplier 4: Newark; Supplier Part Number 4: 43W5496; Supplier 5: Mouser; Supplier Part Number 5: 584-ADP7102ACPZ3.3R7; Packing: Reel; Vin (min) (V): 3.3; Mounting Technology: Surface Mount; ComponentLink1Description: Manufacturer URL; ComponentLink1URL: http://www.analog.com/en/index.html; ComponentLink2Description: Datasheet; ComponentLink2URL: http://www.analog.com/static/imported-files/data_sheets/ADP7102.pdf; ComponentLink3Description: Package Specification; ComponentLink3URL: http://www.analog.com/static/imported-files/packages/PKG_PDF/LFCSP(CP)/CP_8_5.pdf; ComponentLink4Description: URL Link1; ComponentLink4URL: Product URL:http://www.analog.com/en/ADP7102/productSearch.html
footprint ADI-CP-8-5_V (SON, 8-Leads, Body 3x3mm, Pitch 0.5mm, Thermal Pad 1.74x2.38mm)
pins: 1 VOUT (power) "Regulated Output Voltage. Bypass VOUT to GND with a 1 uF or greater capacitor.", 2 SENSE (in) "Sense (SENSE). Measures the actual output voltage at the load and feeds it to the error amplifier. Connect SENSE as close as possible to the load to minimize the effect of IR drop between the regulator output and the load. (See Datasheet)", 3 GND (power) "Ground.", 4 NC "Do Not Connect to this Pin.", 5 EN/UVLO (in), 6 GND (power) "Ground.", 7 PG (oc) "Power Good. This open-drain output requires an external pull-up resistor to VIN or VOUT. If the part is in shutdown, current limit, thermal shutdown, or falls below 90% of the nominal output voltage, PG immediately (See Datasheet)", 8 VIN (power) "Regulator Input Supply. Bypass VIN to GND with a 1 uF or greater capacitor.", 9 EP (power) "Exposed Pad. Exposed paddle on the bottom of the package. The EPAD enhances thermal performance and is electrically connected to GND inside the package. It is highly recommended that the EPAD be connected to the ground plane (See Datasheet)"

## ADP7102ACPZ-5.0-R7
designator U?
300 mA, Low Noise, CMOS LDO, 3.3 to 20 V Vin, 5 V Vout, Industrial, 8-pin SON (CP-8-5), Reel; Manufacturer: Analog Devices; PartNumber: ADP7102ACPZ-5.0-R7; Iout max: 300mA; Preset Vout Values (V): 5.0; Supply Current IGND @ Small Load: 400uA; Vin (max) (V): 20; Vin (min) (V): 3.3; DatasheetVersion: Rev. A; PackageVersion: 031208-A, 03/2008; PackageReference: CP-8-5; PackageDescription: 8-Pin Lead Frame Chip Scale Package, Body 3 x 3 mm, Pitch 0.5 mm; Supplier 1: Digi-Key; Supplier Part Number 1: ADP7102ACPZ-5.0-R7TR-ND; Supplier 2: Digi-Key; Supplier Part Number 2: ADP7102ACPZ-5.0-R7CT-ND; Supplier 3: Digi-Key; Supplier Part Number 3: ADP7102ACPZ-5.0-R7DKR-ND; Supplier 4: Newark; Supplier Part Number 4: 43W5497; Supplier 5: Mouser; Supplier Part Number 5: 584-ADP7102ACPZ5.0R7; Packing: Reel; Mounting Technology: Surface Mount; ComponentLink1Description: Manufacturer URL; ComponentLink1URL: http://www.analog.com/en/index.html; ComponentLink2Description: Datasheet; ComponentLink2URL: http://www.analog.com/static/imported-files/data_sheets/ADP7102.pdf; ComponentLink3Description: Package Specification; ComponentLink3URL: http://www.analog.com/static/imported-files/packages/PKG_PDF/LFCSP(CP)/CP_8_5.pdf; ComponentLink4Description: URL Link1; ComponentLink4URL: Product URL:http://www.analog.com/en/ADP7102/productSearch.html
footprint ADI-CP-8-5_V (SON, 8-Leads, Body 3x3mm, Pitch 0.5mm, Thermal Pad 1.74x2.38mm)
pins: 1 VOUT (power) "Regulated Output Voltage. Bypass VOUT to GND with a 1 uF or greater capacitor.", 2 SENSE (in) "Sense (SENSE). Measures the actual output voltage at the load and feeds it to the error amplifier. Connect SENSE as close as possible to the load to minimize the effect of IR drop between the regulator output and the load. (See Datasheet)", 3 GND (power) "Ground.", 4 NC "Do Not Connect to this Pin.", 5 EN/UVLO (in), 6 GND (power) "Ground.", 7 PG (oc) "Power Good. This open-drain output requires an external pull-up resistor to VIN or VOUT. If the part is in shutdown, current limit, thermal shutdown, or falls below 90% of the nominal output voltage, PG immediately (See Datasheet)", 8 VIN (power) "Regulator Input Supply. Bypass VIN to GND with a 1 uF or greater capacitor.", 9 EP (power) "Exposed Pad. Exposed paddle on the bottom of the package. The EPAD enhances thermal performance and is electrically connected to GND inside the package. It is highly recommended that the EPAD be connected to the ground plane (See Datasheet)"

## ADP7102ACPZ-9.0-R7
designator U?
300 mA, Low Noise, CMOS LDO, 3.3 to 20 V Vin, 9 V Vout, Industrial, 8-pin SON (CP-8-5), Reel; Manufacturer: Analog Devices; PartNumber: ADP7102ACPZ-9.0-R7; Iout max: 300mA; Preset Vout Values (V): 9.0; Supply Current IGND @ Small Load: 400uA; Vin (max) (V): 20; Vin (min) (V): 3.3; DatasheetVersion: Rev. A; PackageVersion: 031208-A, 03/2008; PackageReference: CP-8-5; PackageDescription: 8-Pin Lead Frame Chip Scale Package, Body 3 x 3 mm, Pitch 0.5 mm; Supplier 1: Digi-Key; Supplier Part Number 1: ADP7102ACPZ-9.0-R7TR-ND; Supplier 2: Digi-Key; Supplier Part Number 2: ADP7102ACPZ-9.0-R7CT-ND; Supplier 3: Digi-Key; Supplier Part Number 3: ADP7102ACPZ-9.0-R7DKR-ND; Supplier 4: Newark; Supplier Part Number 4: 43W5498; Supplier 5: Mouser; Supplier Part Number 5: 584-ADP7102ACPZ9.0R7; Packing: Reel; Mounting Technology: Surface Mount; ComponentLink1Description: Manufacturer URL; ComponentLink1URL: http://www.analog.com/en/index.html; ComponentLink2Description: Datasheet; ComponentLink2URL: http://www.analog.com/static/imported-files/data_sheets/ADP7102.pdf; ComponentLink3Description: Package Specification; ComponentLink3URL: http://www.analog.com/static/imported-files/packages/PKG_PDF/LFCSP(CP)/CP_8_5.pdf; ComponentLink4Description: URL Link1; ComponentLink4URL: Product URL:http://www.analog.com/en/ADP7102/productSearch.html
footprint ADI-CP-8-5_V (SON, 8-Leads, Body 3x3mm, Pitch 0.5mm, Thermal Pad 1.74x2.38mm)
pins: 1 VOUT (power) "Regulated Output Voltage. Bypass VOUT to GND with a 1 uF or greater capacitor.", 2 SENSE (in) "Sense (SENSE). Measures the actual output voltage at the load and feeds it to the error amplifier. Connect SENSE as close as possible to the load to minimize the effect of IR drop between the regulator output and the load. (See Datasheet)", 3 GND (power) "Ground.", 4 NC "Do Not Connect to this Pin.", 5 EN/UVLO (in), 6 GND (power) "Ground.", 7 PG (oc) "Power Good. This open-drain output requires an external pull-up resistor to VIN or VOUT. If the part is in shutdown, current limit, thermal shutdown, or falls below 90% of the nominal output voltage, PG immediately (See Datasheet)", 8 VIN (power) "Regulator Input Supply. Bypass VIN to GND with a 1 uF or greater capacitor.", 9 EP (power) "Exposed Pad. Exposed paddle on the bottom of the package. The EPAD enhances thermal performance and is electrically connected to GND inside the package. It is highly recommended that the EPAD be connected to the ground plane (See Datasheet)"

## ADP7102ACPZ-R7
designator U?
300 mA, Low Noise, CMOS LDO, 3.3 to 20 V Vin, 1.22 to Vin-Vdo Vout, Industrial, 8-pin SON (CP-8-5), Reel; Manufacturer: Analog Devices; PartNumber: ADP7102ACPZ-R7; Iout max: 300mA; Supply Current IGND @ Small Load: 400uA; Vin (max) (V): 20; Vin (min) (V): 3.3; Vout Adjustable Range: 1.22V to 19V; DatasheetVersion: Rev. A; PackageVersion: 031208-A, 03/2008; PackageReference: CP-8-5; PackageDescription: 8-Pin Lead Frame Chip Scale Package, Body 3 x 3 mm, Pitch 0.5 mm; Supplier 1: Digi-Key; Supplier Part Number 1: ADP7102ACPZ-R7TR-ND; Supplier 2: Digi-Key; Supplier Part Number 2: ADP7102ACPZ-R7CT-ND; Supplier 3: Digi-Key; Supplier Part Number 3: ADP7102ACPZ-R7DKR-ND; Supplier 4: Farnell; Supplier Part Number 4: 2081043; Supplier 5: Newark; Supplier Part Number 5: 92T3197; Supplier 6: Newark; Supplier Part Number 6: 72T3549; Supplier 7: Mouser; Supplier Part Number 7: 584-ADP7102ACPZ-R7; Packing: Reel; Mounting Technology: Surface Mount; ComponentLink1Description: Manufacturer URL; ComponentLink1URL: http://www.analog.com/en/index.html; ComponentLink2Description: Datasheet; ComponentLink2URL: http://www.analog.com/static/imported-files/data_sheets/ADP7102.pdf; ComponentLink3Description: Package Specification; ComponentLink3URL: http://www.analog.com/static/imported-files/packages/PKG_PDF/LFCSP(CP)/CP_8_5.pdf; ComponentLink4Description: URL Link1; ComponentLink4URL: Product URL:http://www.analog.com/en/ADP7102/productSearch.html
footprint ADI-CP-8-5_V (SON, 8-Leads, Body 3x3mm, Pitch 0.5mm, Thermal Pad 1.74x2.38mm)
pins: 1 VOUT (power) "Regulated Output Voltage. Bypass VOUT to GND with a 1 μF or greater capacitor.", 2 ADJ (in) "Adjust Input (ADJ). An external resistor divider sets the output voltage. This function applies to adjustable voltages only.", 3 GND (power) "Ground.", 4 NC "Do Not Connect to this Pin.", 5 EN/UVLO (in) "Enable Input (EN). Drive EN high to turn on the regulator; drive EN low to turn off the regulator. For automatic startup, connect EN to VIN. Programmable Undervoltage Lockout (UVLO). When the programmable UVLO function is (See Datasheet)", 6 GND (power) "Ground.", 7 PG (oc) "Power Good. This open-drain output requires an external pull-up resistor to VIN or VOUT. If the part is in shutdown, current limit, thermal shutdown, or falls below 90% of the nominal output voltage, PG immediately (See Datasheet)", 8 VIN (power) "Regulator Input Supply. Bypass VIN to GND with a 1 μF or greater capacitor.", 9 EP (power) "Exposed Pad. Exposed paddle on the bottom of the package. The EPAD enhances thermal performance and is electrically connected to GND inside the package. It is highly recommended that the EPAD be connected to the ground plane (See Datasheet)"

## ADP7102ARDZ-1.5-R7
designator U?
300 mA, Low Noise, CMOS LDO, 3.3 to 20 V Vin, 1.5 V Vout, Industrial, 8-pin SOIC (RD-8-2), Reel; Manufacturer: Analog Devices; PartNumber: ADP7102ARDZ-1.5-R7; Iout max: 300mA; Preset Vout Values (V): 1.5; Supply Current IGND @ Small Load: 400uA; Vin (max) (V): 20; Vin (min) (V): 3.3; DatasheetVersion: Rev. A; PackageVersion: Jan-05; PackageReference: RD-8-2; PackageDescription: 8-Pin Standard Small Outline Package, Body 4.9 x 3.9 mm, Pitch 1.27 mm; Supplier 1: Digi-Key; Supplier Part Number 1: ADP7102ARDZ-1.5-R7TR-ND; Supplier 2: Digi-Key; Supplier Part Number 2: ADP7102ARDZ-1.5-R7CT-ND; Supplier 3: Digi-Key; Supplier Part Number 3: ADP7102ARDZ-1.5-R7DKR-ND; Supplier 4: Mouser; Supplier Part Number 4: 584-ADP7102ARDZ1.5R7; Packing: Reel; Mounting Technology: Surface Mount; Code_JEDEC: MS-012-AA; ComponentLink1Description: Manufacturer URL; ComponentLink1URL: http://www.analog.com/en/index.html; ComponentLink2Description: Datasheet; ComponentLink2URL: http://www.analog.com/static/imported-files/data_sheets/ADP7102.pdf; ComponentLink3Description: Package Specification; ComponentLink3URL: http://www.analog.com/static/imported-files/packages/62062404671038RD_8_2.pdf; ComponentLink4Description: URL Link1; ComponentLink4URL: Product URL:http://www.analog.com/en/ADP7102/productSearch.html
footprint ADI-RD-8-2_N (SOIC, 8-Leads, Body 4.9x3.9mm, Pitch 1.27mm, Thermal Pad 3.098x2.41mm, IPC Medium Density)
footprint ADI-RD-8-2_L (SOIC, 8-Leads, Body 4.9x3.9mm, Pitch 1.27mm, Thermal Pad 3.098x2.41mm, IPC High Density)
footprint ADI-RD-8-2_M (SOIC, 8-Leads, Body 4.9x3.9mm, Pitch 1.27mm, Thermal Pad 3.098x2.41mm, IPC Low Density)
pins: 1 VOUT (power) "Regulated Output Voltage. Bypass VOUT to GND with a 1 uF or greater capacitor.", 2 SENSE (in), 3 GND (power) "Ground.", 4 NC "Do Not Connect to this Pin.", 5 EN/UVLO (in), 6 GND (power) "Ground.", 7 PG (oc) "Power Good. This open-drain output requires an external pull-up resistor to VIN or VOUT. If the part is in shutdown, current limit, thermal shutdown, or falls below 90% of the nominal output voltage, PG immediately (See Datasheet)", 8 VIN (power) "Regulator Input Supply. Bypass VIN to GND with a 1 uF or greater capacitor.", 9 EP (power) "Exposed Pad. Exposed paddle on the bottom of the package. The EPAD enhances thermal performance and is electrically connected to GND inside the package. It is highly recommended that the EPAD be connected to the ground plane (See Datasheet)"

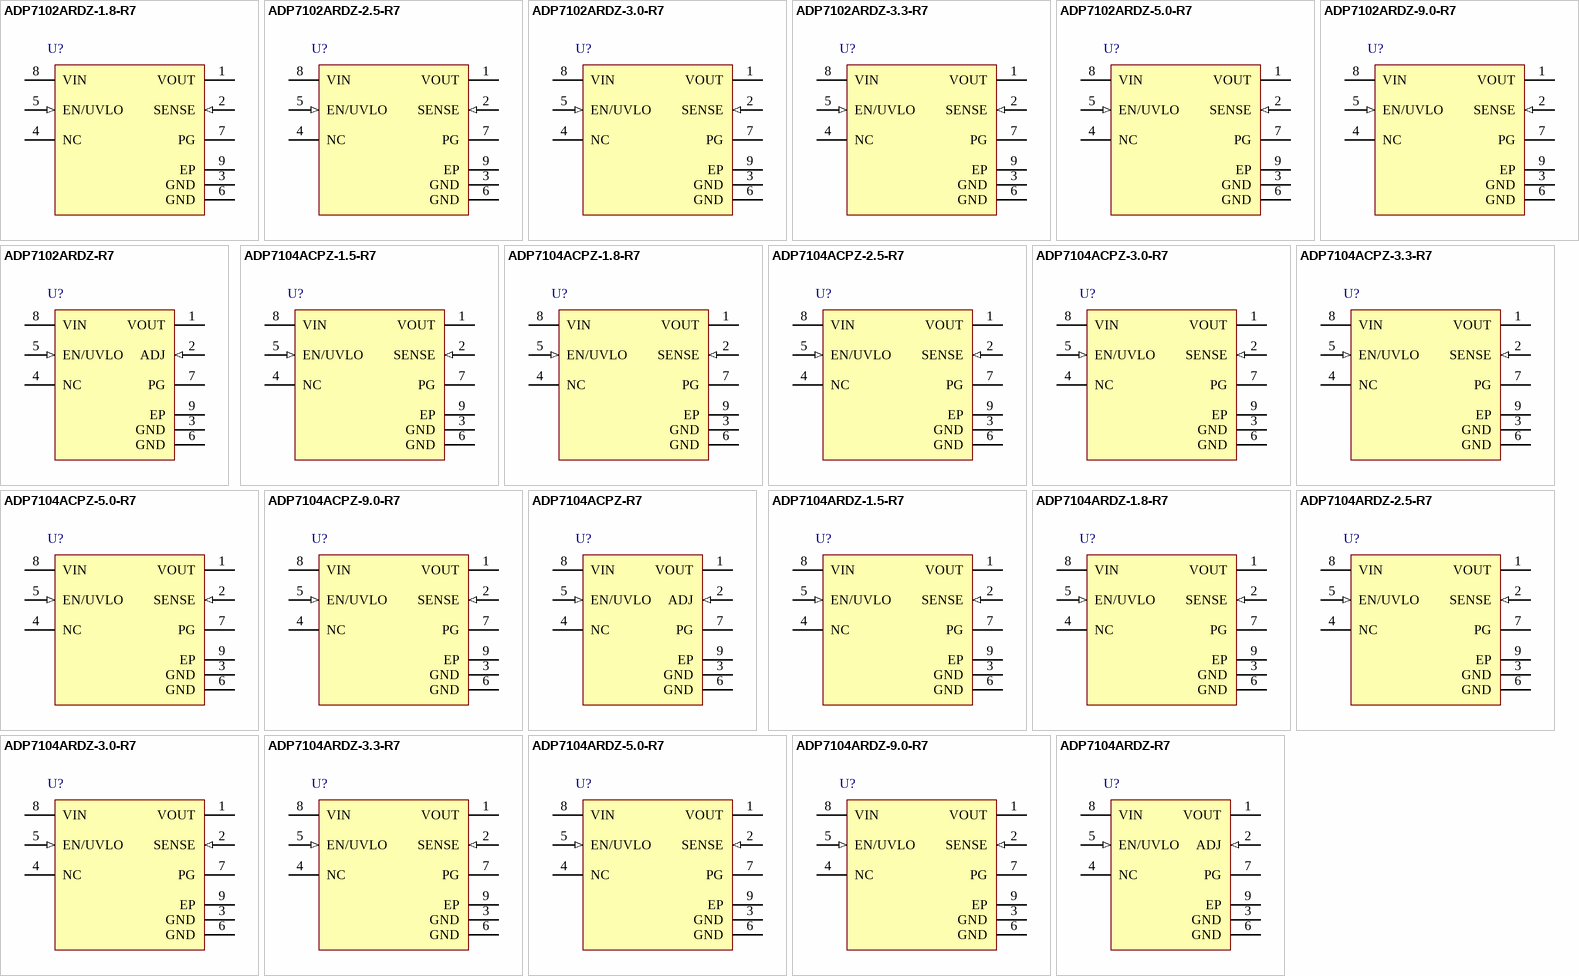
[diagram p11: symbols ADP7102ARDZ-1.8-R7 to ADP7104ARDZ-R7]

## ADP7102ARDZ-1.8-R7
designator U?
300 mA, Low Noise, CMOS LDO, 3.3 to 20 V Vin, 1.8 V Vout, Industrial, 8-pin SOIC (RD-8-2), Reel; Manufacturer: Analog Devices; PartNumber: ADP7102ARDZ-1.8-R7; Iout max: 300mA; Preset Vout Values (V): 1.8; Supply Current IGND @ Small Load: 400uA; Vin (max) (V): 20; Vin (min) (V): 3.3; DatasheetVersion: Rev. A; PackageVersion: Jan-05; PackageReference: RD-8-2; PackageDescription: 8-Pin Standard Small Outline Package, Body 4.9 x 3.9 mm, Pitch 1.27 mm; Supplier 1: Digi-Key; Supplier Part Number 1: ADP7102ARDZ-1.8-R7TR-ND; Supplier 2: Digi-Key; Supplier Part Number 2: ADP7102ARDZ-1.8-R7CT-ND; Supplier 3: Digi-Key; Supplier Part Number 3: ADP7102ARDZ-1.8-R7DKR-ND; Supplier 4: Mouser; Supplier Part Number 4: 584-ADP7102ARDZ1.8R7; Packing: Reel; Mounting Technology: Surface Mount; Code_JEDEC: MS-012-AA; ComponentLink1Description: Manufacturer URL; ComponentLink1URL: http://www.analog.com/en/index.html; ComponentLink2Description: Datasheet; ComponentLink2URL: http://www.analog.com/static/imported-files/data_sheets/ADP7102.pdf; ComponentLink3Description: Package Specification; ComponentLink3URL: http://www.analog.com/static/imported-files/packages/62062404671038RD_8_2.pdf; ComponentLink4Description: URL Link1; ComponentLink4URL: Product URL:http://www.analog.com/en/ADP7102/productSearch.html
footprint ADI-RD-8-2_N (SOIC, 8-Leads, Body 4.9x3.9mm, Pitch 1.27mm, Thermal Pad 3.098x2.41mm, IPC Medium Density)
footprint ADI-RD-8-2_L (SOIC, 8-Leads, Body 4.9x3.9mm, Pitch 1.27mm, Thermal Pad 3.098x2.41mm, IPC High Density)
footprint ADI-RD-8-2_M (SOIC, 8-Leads, Body 4.9x3.9mm, Pitch 1.27mm, Thermal Pad 3.098x2.41mm, IPC Low Density)
pins: 1 VOUT (power) "Regulated Output Voltage. Bypass VOUT to GND with a 1 uF or greater capacitor.", 2 SENSE (in), 3 GND (power) "Ground.", 4 NC "Do Not Connect to this Pin.", 5 EN/UVLO (in), 6 GND (power) "Ground.", 7 PG (oc) "Power Good. This open-drain output requires an external pull-up resistor to VIN or VOUT. If the part is in shutdown, current limit, thermal shutdown, or falls below 90% of the nominal output voltage, PG immediately (See Datasheet)", 8 VIN (power) "Regulator Input Supply. Bypass VIN to GND with a 1 uF or greater capacitor.", 9 EP (power) "Exposed Pad. Exposed paddle on the bottom of the package. The EPAD enhances thermal performance and is electrically connected to GND inside the package. It is highly recommended that the EPAD be connected to the ground plane (See Datasheet)"